# EAGLE library part CD4066BPWR (library cd4066)
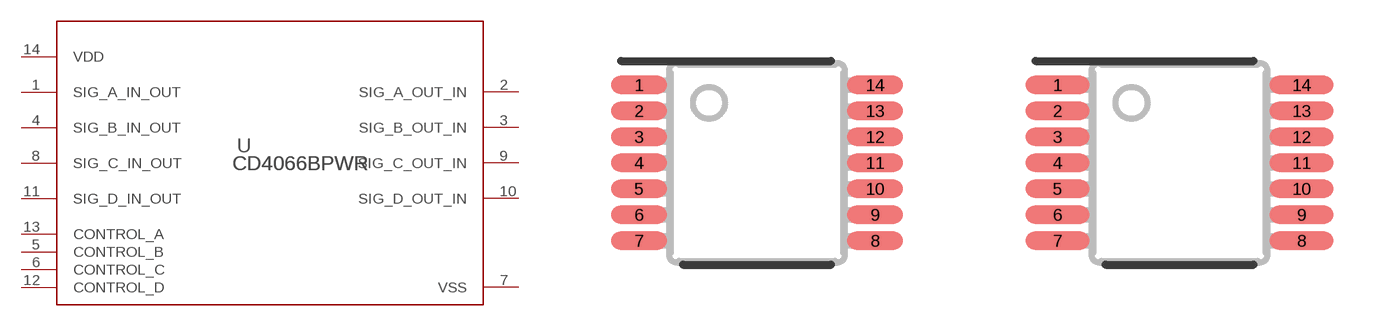
[diagram p0: symbol with the pads of PW0014A_N; footprints PW0014A_N, PW0014A_M]

Designator prefix U

## CD4066BPWRPW0014A_N (Copyright: Copyright (C) 2023 Ultra Librarian. All rights reserved.; Manufacturer_Part_Number: CD4066BPWR; Mfr_Name: Texas Instruments; RefDes: RefDes; TYPE: TYPE)  [PW0014A_N]
1  SIG_A_IN_OUT
2  SIG_A_OUT_IN
3  SIG_B_OUT_IN
4  SIG_B_IN_OUT
5  CONTROL_B  in
6  CONTROL_C  in
7  VSS  pwr
8  SIG_C_IN_OUT
9  SIG_C_OUT_IN
10  SIG_D_OUT_IN
11  SIG_D_IN_OUT
12  CONTROL_D  in
13  CONTROL_A  in
14  VDD  pwr

## CD4066BPWRPW0014A_M (Copyright: Copyright (C) 2023 Ultra Librarian. All rights reserved.; Manufacturer_Part_Number: CD4066BPWR; Mfr_Name: Texas Instruments; RefDes: RefDes; TYPE: TYPE)  [PW0014A_M]
Pads as for PW0014A_N

## CD4066BPWRPW0014A_L (Copyright: Copyright (C) 2023 Ultra Librarian. All rights reserved.; Manufacturer_Part_Number: CD4066BPWR; Mfr_Name: Texas Instruments; RefDes: RefDes; TYPE: TYPE)  [PW0014A_L]
Pads as for PW0014A_N

## Footprint PW0014A_N (pad centres in mm)
smd 1.4 x 0.45: 1 -2.95,1.95; 2 -2.95,1.3; 3 -2.95,0.65; 4 -2.95,0; 5 -2.95,-0.65; 6 -2.95,-1.3; 7 -2.95,-1.95; 8 2.95,-1.95; 9 2.95,-1.3; 10 2.95,-0.65; 11 2.95,0; 12 2.95,0.65; 13 2.95,1.3; 14 2.95,1.95

## Footprint PW0014A_M (pad centres in mm)
smd 1.6 x 0.45: 1 -3.05,1.95; 2 -3.05,1.3; 3 -3.05,0.65; 4 -3.05,0; 5 -3.05,-0.65; 6 -3.05,-1.3; 7 -3.05,-1.95; 8 3.05,-1.95; 9 3.05,-1.3; 10 3.05,-0.65; 11 3.05,0; 12 3.05,0.65; 13 3.05,1.3; 14 3.05,1.95

## Footprint PW0014A_L (pad centres in mm)
smd 1.2 x 0.4: 1 -2.85,1.95; 2 -2.85,1.3; 3 -2.85,0.65; 4 -2.85,0; 5 -2.85,-0.65; 6 -2.85,-1.3; 7 -2.85,-1.95; 8 2.85,-1.95; 9 2.85,-1.3; 10 2.85,-0.65; 11 2.85,0; 12 2.85,0.65; 13 2.85,1.3; 14 2.85,1.95